# Altium schematic symbol library NanoFit3pos.SchLib: 1 symbol
Pins are listed as number, name and electrical type; pins without a type are passive.

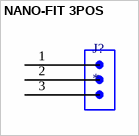
[diagram p0: symbol NANO-FIT 3POS]

## NANO-FIT 3POS
designator J?
105313-1203
footprint PCBComponent_1
pins: 1, 2, 3